# EAGLE library part ESP8266-07 (library trosh_devices.eagle.v9)
ESP-07 802.11 b/g/n Wi-Fi Module
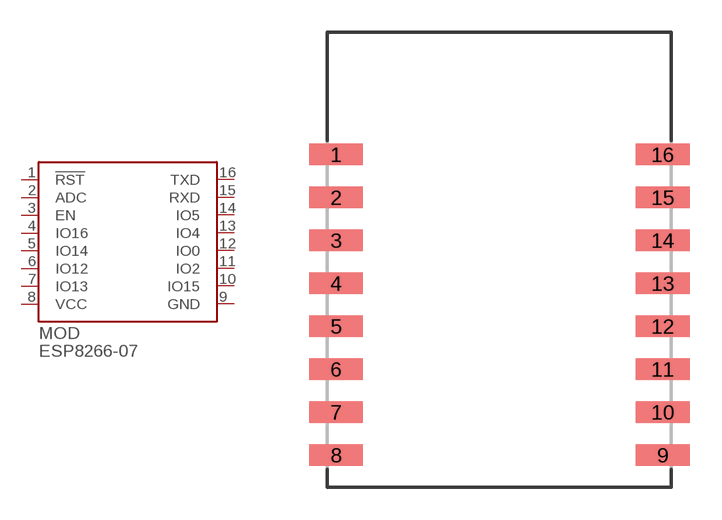
[diagram p7: symbol with the pads of ESP8266-07; footprint ESP8266-07]

Designator prefix MOD

## ESP8266-07  [ESP8266-07]
1  !RST
2  ADC
3  EN
4  IO16
5  IO14
6  IO12
7  IO13
8  VCC
9  GND
10  IO15
11  IO2
12  IO0
13  IO4
14  IO5
15  RXD
16  TXD

## Footprint ESP8266-07 (pad centres in mm)
smd 2.5 x 1: 1 -7.6,7.2; 2 -7.6,5.2; 3 -7.6,3.2; 4 -7.6,1.2; 5 -7.6,-0.8; 6 -7.6,-2.8; 7 -7.6,-4.8; 8 -7.6,-6.8; 9 7.6,-6.8; 10 7.6,-4.8; 11 7.6,-2.8; 12 7.6,-0.8; 13 7.6,1.2; 14 7.6,3.2; 15 7.6,5.2; 16 7.6,7.2